# EAGLE library part SIP5XB (library rezistory)
Rezistorová sít
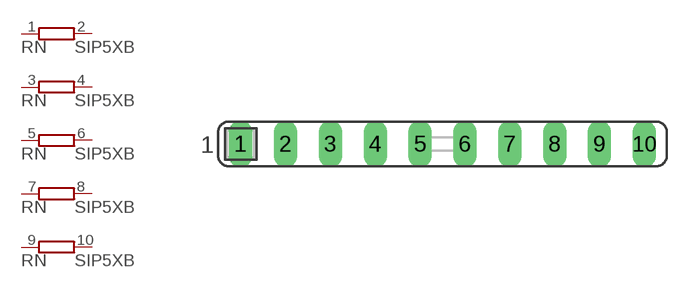
[diagram p2: symbol with the pads of SIL10; footprint SIL10]

Designator prefix RN; gates G$1=RPV G$2=RPV G$3=RPV G$4=RPV G$5=RPV

## SIP5XB  [SIL10]
1  G$1:1  pas
2  G$1:2  pas
3  G$2:1  pas
4  G$2:2  pas
5  G$3:1  pas
6  G$3:2  pas
7  G$4:1  pas
8  G$4:2  pas
9  G$5:1  pas
10  G$5:2  pas

## Footprint SIL10 (pad centres in mm)
drill 0.813 long: 1 -11.43,0; 2 -8.89,0; 3 -6.35,0; 4 -3.81,0; 5 -1.27,0; 6 1.27,0; 7 3.81,0; 8 6.35,0; 9 8.89,0; 10 11.43,0